# Altium schematic symbol library 2020-03-06_18-50-40.SchLib: 1 symbol
Pins are listed as number, name and electrical type; pins without a type are passive.

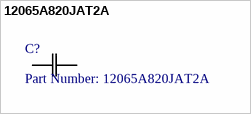
[diagram p0: symbol 12065A820JAT2A]

## 12065A820JAT2A
designator C?, comment Part Number: 12065A820JAT2A
No Description Available; Vendor: AVX Corporation; Built_By: EMA_UL_Team; Type: DEV; Manufacturer_Part_Number: 12065A820JAT2A; Copyright: Copyright (C) 2018 Accelerated Designs. All rights reserved; RefDes: RefDes; Value: Value
footprint 1206
pins: 1, 2